# EAGLE library part CY7C144E (library wolf_rev_c)
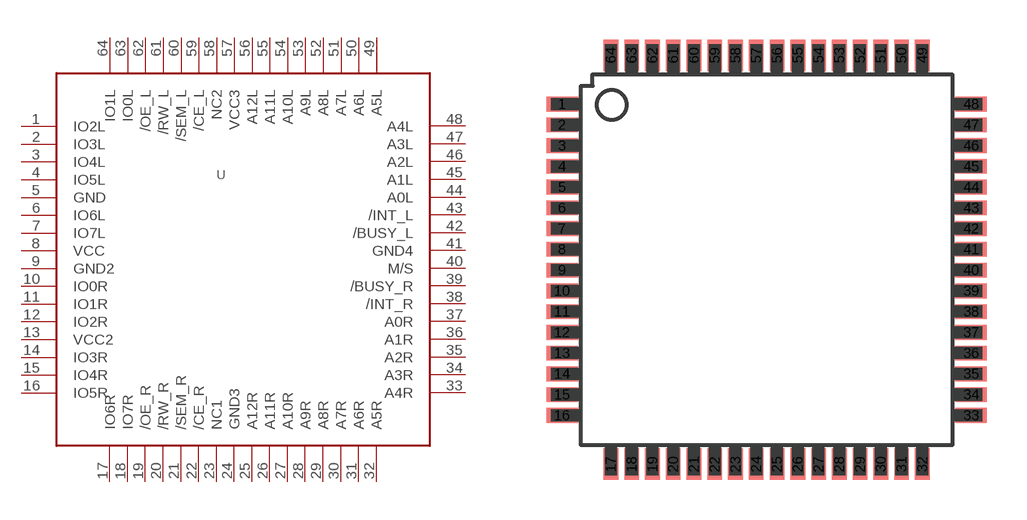
[diagram p1: symbol with the pads of TQFP64; footprint TQFP64]

Designator prefix -

## CY7C144E  [TQFP64]
1  IO2L
2  IO3L
3  IO4L
4  IO5L
5  GND
6  IO6L
7  IO7L
8  VCC
9  GND2
10  IO0R
11  IO1R
12  IO2R
13  VCC2
14  IO3R
15  IO4R
16  IO5R
17  IO6R
18  IO7R
19  /OE_R
20  /RW_R
21  /SEM_R
22  /CE_R
23  NC1
24  GND3
25  A12R
26  A11R
27  A10R
28  A9R
29  A8R
30  A7R
31  A6R
32  A5R
33  A4R
34  A3R
35  A2R
36  A1R
37  A0R
38  /INT_R
39  /BUSY_R
40  M/S
41  GND4
42  /BUSY_L
43  /INT_L
44  A0L
45  A1L
46  A2L
47  A3L
48  A4L
49  A5L
50  A6L
51  A7L
52  A8L
53  A9L
54  A10L
55  A11L
56  A12L
57  VCC3
58  NC2
59  /CE_L
60  /SEM_L
61  /RW_L
62  /OE_L
63  IO0L
64  IO1L

## Footprint TQFP64 (pad centres in mm)
Thin Quad Flat Pack
smd 1.194 x 0.559: 1 -7.76,5.905; 2 -7.76,5.118; 3 -7.76,4.331; 4 -7.76,3.543; 5 -7.76,2.756; 6 -7.76,1.968; 7 -7.76,1.181; 8 -7.76,0.394; 9 -7.76,-0.394; 10 -7.76,-1.181; 11 -7.76,-1.968; 12 -7.76,-2.756; 13 -7.76,-3.543; 14 -7.76,-4.331; 15 -7.76,-5.118; 16 -7.76,-5.905; 33 7.76,-5.905; 34 7.76,-5.118; 35 7.76,-4.331; 36 7.76,-3.543; 37 7.76,-2.756; 38 7.76,-1.968; 39 7.76,-1.181; 40 7.76,-0.394; 41 7.76,0.394; 42 7.76,1.181; 43 7.76,1.968; 44 7.76,2.756; 45 7.76,3.543; 46 7.76,4.331; 47 7.76,5.118; 48 7.76,5.905
smd 0.559 x 1.194: 17 -5.905,-7.76; 18 -5.118,-7.76; 19 -4.331,-7.76; 20 -3.543,-7.76; 21 -2.756,-7.76; 22 -1.968,-7.76; 23 -1.181,-7.76; 24 -0.394,-7.76; 25 0.394,-7.76; 26 1.181,-7.76; 27 1.968,-7.76; 28 2.756,-7.76; 29 3.543,-7.76; 30 4.331,-7.76; 31 5.118,-7.76; 32 5.905,-7.76; 49 5.905,7.76; 50 5.118,7.76; 51 4.331,7.76; 52 3.543,7.76; 53 2.756,7.76; 54 1.968,7.76; 55 1.181,7.76; 56 0.394,7.76; 57 -0.394,7.76; 58 -1.181,7.76; 59 -1.968,7.76; 60 -2.756,7.76; 61 -3.543,7.76; 62 -4.331,7.76; 63 -5.118,7.76; 64 -5.905,7.76